# Altium footprint library BLErelay.PcbLib: 20 footprints (part 1 of 2)
Each footprint in its own frame and in the unit in brackets; x right, y up, seen from the top. Pads: shape width x height; smd on the part's side, far side on the other; paste and mask are expansions set on the pad; w line width, h text height; cw(c..) or ccw(c..) is an arc to the next point about the centre after c.
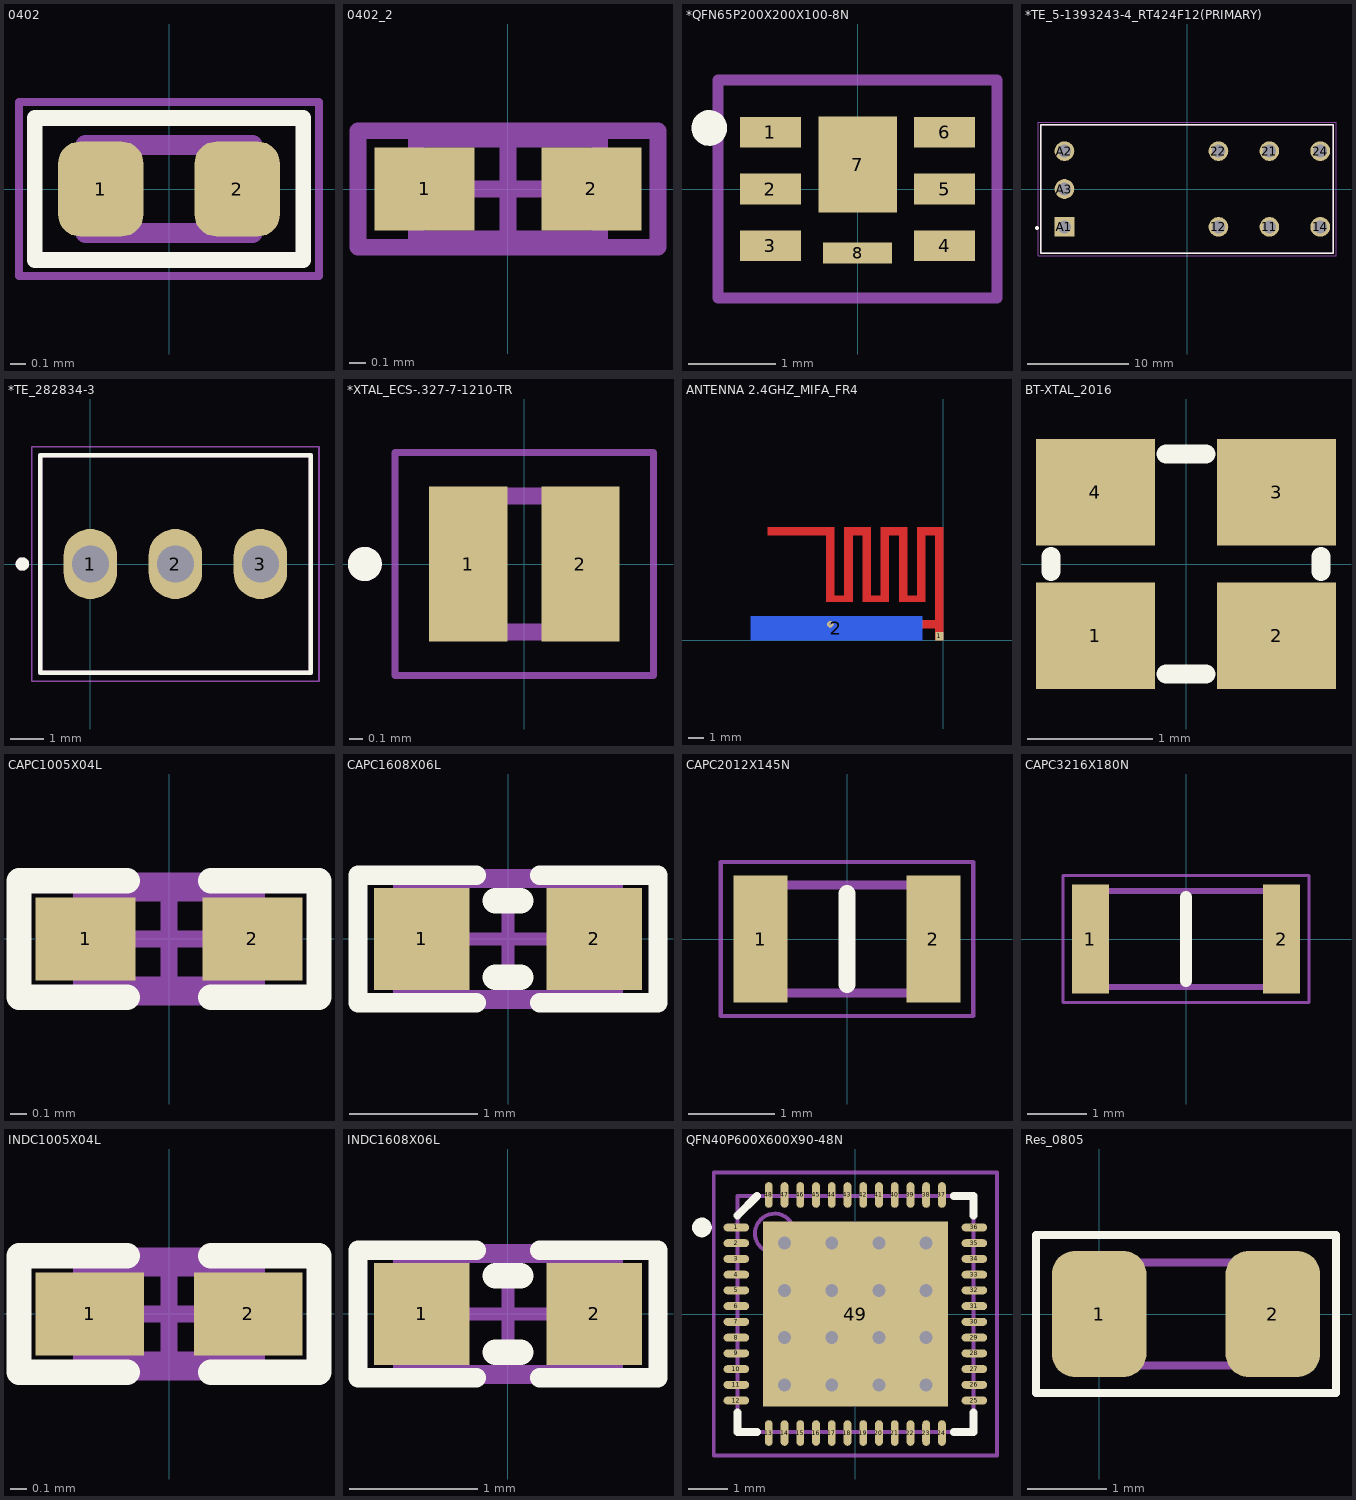
[diagram p0: the footprints below, top view; thin cyan lines are the x and y axes]

## 0402 [mm]
pads (2):
  rrect50% 0.54x0.6 smd mask+0.05: 1(-0.432,0) 2(0.432,0)
Top Overlay:
  lines w0.1: -0.85,-0.45 0.85,-0.45 0.85,0.45 -0.85,0.45 -0.85,-0.45
Mechanical 4:
  lines w0.127: -0.53,-0.28 -0.53,0.28 ; -0.53,-0.28 0.53,-0.28 ; -0.53,-0.28 -0.53,0.28 ; -0.53,-0.28 0.53,-0.28 ; -0.53,0.28 0.53,0.28 ; -0.53,0.28 0.53,0.28 ; 0.53,-0.28 0.53,0.28 ; 0.53,-0.28 0.53,0.28
Mechanical 16:
  lines w0.05: -0.95,-0.55 -0.95,0.55 0.95,0.55 0.95,-0.55 -0.95,-0.55
3D body "User Library-d0402h025.step": height 0.25, standoff 0, extent -0.5,-0.25 0.5,0.25

## 0402_2 [mm]
pads (2):
  rect 0.6x0.5 smd: 1(-0.5,0) 2(0.5,0)
Mechanical 13:
  lines w0.1: -0.55,-0.3 -0.55,0.3 0.55,0.3 0.55,-0.3 -0.55,-0.3
Mechanical 15:
  lines w0.1: -0.3,0 0.3,0 ; 0,-0.3 0,0.3 ; -0.9,-0.35 -0.9,0.35 0.9,0.35 0.9,-0.35 -0.9,-0.35
3D body: height 1.3, standoff 0, extent -0.55,-0.3 0.55,0.3

## *QFN65P200X200X100-8N [mm]
pads (8):
  rect 0.7x0.35 smd: 1(-1,0.65) 2(-1,0) 3(-1,-0.65) 4(1,-0.65) 5(1,0) 6(1,0.65)
  rect 0.9x1.1 smd: 7(0,0.28)
  rect 0.795x0.24 smd: 8(0,-0.735)
Top Overlay:
  circle w0.305: c-1.7,0.7 r0.05
  circle w0.127: c-1.7,0.7 r0.141
Mechanical 16:
  lines w0.127: -1.6,-1.25 -1.6,1.25 1.6,1.25 1.6,-1.25 -1.6,-1.25
3D body: height 0.5, standoff 0, extent -1.27,-1.016 1.27,1.016

## *TE_5-1393243-4_RT424F12(PRIMARY) [mm]
pads (9):
  round 1.95 hole 1.3: 11(8.15,-3.75) 12(3.11,-3.75) 14(13.19,-3.75) 21(8.15,3.75) 22(3.11,3.75) 24(13.19,3.75) A2(-12.15,3.75) A3(-12.15,0)
  rect 1.95x1.95 hole 1.3: A1(-12.15,-3.75)
Top Overlay:
  circle w0.2: c-14.865,-3.87 r0.1
  lines w0.127: -14.5,-6.35 -14.5,6.35 14.5,6.35 14.5,-6.35 -14.5,-6.35
Mechanical 4:
  lines w0.127: -14.5,-6.35 -14.5,6.35 ; -14.5,-6.35 14.5,-6.35 ; -14.5,-6.35 -14.5,6.35 ; -14.5,-6.35 14.5,-6.35 ; -14.5,6.35 14.5,6.35 ; -14.5,6.35 14.5,6.35 ; 14.5,-6.35 14.5,6.35 ; 14.5,-6.35 14.5,6.35
Mechanical 16:
  lines w0.05: -14.75,-6.6 -14.75,6.6 14.75,6.6 14.75,-6.6 -14.75,-6.6
3D body "c-5-1393243-4-b-3d.stp": height 15.7, standoff -3.6, extent -14.5,-6.35 14.5,6.35

## *TE_282834-3 [mm]
pads (3):
  oval 1.6x2.1 hole 1.1: 1(0,0) 2(2.54,0) 3(5.08,0)
Top Overlay:
  circle w0.2: c-2.032,0 r0.1
  lines w0.127: -1.5,-3.25 6.58,-3.25 6.58,3.25 -1.5,3.25 -1.5,-3.25
Mechanical 4:
  circle w0.2: c-2.032,0 r0.1
  circle w0.2: c-2.032,0 r0.1
  lines w0.127: -1.5,-3.25 6.58,-3.25 ; -1.5,-3.25 -1.5,3.25 ; -1.5,-3.25 6.58,-3.25 ; -1.5,-3.25 -1.5,3.25 ; -1.5,3.25 6.58,3.25 ; -1.5,3.25 6.58,3.25 ; 6.58,-3.25 6.58,3.25 ; 6.58,-3.25 6.58,3.25
Mechanical 16:
  lines w0.05: -1.75,-3.5 6.83,-3.5 6.83,3.5 -1.75,3.5 -1.75,-3.5
3D body "c-282834-3-c-3d.stp": height 10.05, standoff -3.35, extent -1.5,-3.198 6.58,3.302

## *XTAL_ECS-.327-7-1210-TR [mm]
pads (2):
  rect 0.575x1.14 smd: 1(-0.413,0) 2(0.413,0)
Top Overlay:
  circle w0.15: c-1.173,0 r0.05
Mechanical 4:
  circle w0.15: c-1.173,0 r0.05
  circle w0.15: c-1.173,0 r0.05
  lines w0.127: -0.6,-0.5 -0.6,0.5 ; -0.6,-0.5 0.6,-0.5 ; -0.6,-0.5 -0.6,0.5 ; -0.6,-0.5 0.6,-0.5 ; -0.6,0.5 0.6,0.5 ; -0.6,0.5 0.6,0.5 ; 0.6,-0.5 0.6,0.5 ; 0.6,-0.5 0.6,0.5
Mechanical 16:
  lines w0.05: -0.95,-0.82 -0.95,0.82 0.95,0.82 0.95,-0.82 -0.95,-0.82

## ANTENNA 2.4GHZ_MIFA_FR4 [mil]
pads (2):
  rect 20x20 smd: 1(-10,10)
  rect 425x60 smd far side: 2(-265,30)
via -280,40 diameter 15.75 hole 7.87
Top Layer:
  region: 0,0 0,280 -65,280 -65,110 -90,110 -90,280 -155,280 -155,110 -180,110 -180,280 -245,280 -245,110 -270,110 -270,280 -435,280 -435,260 -290,260 -290,95 -225,95 -225,260 -200,260 -200,95 -135,95 -135,260 -110,260 -110,95 -45,95 -45,260 -20,260 -20,0
  region: 0,50 -293,50 -293,30 0,30
Bottom Layer:
  region: 0,560
  region: 0,0

## BT-XTAL_2016 [mm]
pads (4):
  rect 0.95x0.85 smd: 1(-0.725,-0.575) 2(0.725,-0.575) 3(0.725,0.575) 4(-0.725,0.575)
Top Overlay:
  lines w0.152: -1.08,-0.06 -1.08,0.06 ; -0.16,-0.88 0.16,-0.88 ; -0.16,0.88 0.16,0.88 ; 1.08,-0.06 1.08,0.06
3D body "User Library-GeyerElectronics_KX5.step": height 0.56, standoff 0, extent -1.05,-0.85 1.05,0.85
3D body: height 0.56, standoff 0.15, extent -0.7,-0.65 0.7,0.65

## CAPC1005X04L [mm]
pads (2):
  rect 0.6x0.5 smd: 1(-0.5,0) 2(0.5,0)
Top Overlay:
  lines w0.152: -0.25,-0.35 -0.9,-0.35 -0.9,0.35 -0.25,0.35 ; 0.25,-0.35 0.9,-0.35 0.9,0.35 0.25,0.35
Mechanical 13:
  lines w0.1: -0.525,-0.275 0.525,-0.275 0.525,0.275 -0.525,0.275 -0.525,-0.275
Mechanical 15:
  lines w0.1: -0.275,0 0.275,0 ; 0,-0.275 0,0.275 ; -0.9,-0.35 -0.9,0.35 0.9,0.35 0.9,-0.35 -0.9,-0.35
3D body "User Library-0402(1005M) Cap.step": height 0.5, standoff -0.01, extent -0.508,-0.254 0.508,0.254

## CAPC1608X06L [mm]
pads (2):
  rect 0.75x0.8 smd: 1(-0.675,0) 2(0.675,0)
Top Overlay:
  lines w0.152: -0.25,-0.5 -1.175,-0.5 -1.175,0.5 -0.25,0.5 ; 0.25,-0.5 1.175,-0.5 1.175,0.5 0.25,0.5
  lines w0.2: -0.1,-0.3 0.1,-0.3 ; -0.1,0.3 0.1,0.3
Mechanical 13:
  lines w0.1: -0.85,-0.45 0.85,-0.45 0.85,0.45 -0.85,0.45 -0.85,-0.45
Mechanical 15:
  lines w0.1: -0.45,0 0.45,0 ; 0,-0.45 0,0.45 ; -1.175,-0.5 -1.175,0.5 1.175,0.5 1.175,-0.5 -1.175,-0.5
3D body "User Library-Chip Capacitor 0603.step": height 0.8, standoff 0, extent -0.8,-0.43 0.8,0.43

## CAPC2012X145N [mm]
pads (2):
  rect 0.62x1.47 smd: 1(-1,0) 2(1,0)
Top Overlay:
  lines w0.2: 0,-0.525 0,0.525
Mechanical 13:
  lines w0.1: -1,-0.625 -1,0.625 1,0.625 1,-0.625 -1,-0.625
Mechanical 15:
  lines w0.05: -1.46,-0.89 -1.46,0.89 1.46,0.89 1.46,-0.89 -1.46,-0.89
3D body "C2012X7T2W473K125AA.stp": height 1.45, standoff 0, extent -1,-0.625 1,0.625

## CAPC3216X180N [mm]
pads (2):
  rect 0.62x1.82 smd: 1(-1.6,0) 2(1.6,0)
Top Overlay:
  lines w0.2: 0,-0.7 0,0.7
Mechanical 13:
  lines w0.1: -1.6,-0.8 -1.6,0.8 1.6,0.8 1.6,-0.8 -1.6,-0.8
Mechanical 15:
  lines w0.05: -2.06,-1.06 -2.06,1.06 2.06,1.06 2.06,-1.06 -2.06,-1.06
3D body "C3216X5R1V226M160AC.stp": height 1.8, standoff 0, extent -1.6,-0.8 1.6,0.8

## INDC1005X04L [mm]
pads (2):
  rect 0.65x0.5 smd: 1(-0.475,0) 2(0.475,0)
Top Overlay:
  lines w0.152: -0.25,-0.35 -0.9,-0.35 -0.9,0.35 -0.25,0.35 ; 0.25,-0.35 0.9,-0.35 0.9,0.35 0.25,0.35
Mechanical 13:
  lines w0.1: -0.525,-0.275 -0.525,0.275 0.525,0.275 0.525,-0.275 -0.525,-0.275
Mechanical 15:
  lines w0.1: -0.275,0 0.275,0 ; 0,-0.275 0,0.275 ; -0.9,-0.35 -0.9,0.35 0.9,0.35 0.9,-0.35 -0.9,-0.35
3D body "User Library-Chip Inductor 0402.step": height 0.5, standoff 0, extent -0.5,-0.3 0.5,0.3

## INDC1608X06L [mm]
pads (2):
  rect 0.75x0.8 smd: 1(-0.675,0) 2(0.675,0)
Top Overlay:
  lines w0.152: -0.25,-0.5 -1.175,-0.5 -1.175,0.5 -0.25,0.5 ; 0.25,-0.5 1.175,-0.5 1.175,0.5 0.25,0.5
  lines w0.2: -0.1,-0.3 0.1,-0.3 ; -0.1,0.3 0.1,0.3
Mechanical 13:
  lines w0.1: -0.85,-0.45 0.85,-0.45 0.85,0.45 -0.85,0.45 -0.85,-0.45
Mechanical 15:
  lines w0.1: -0.45,0 0.45,0 ; 0,-0.45 0,0.45 ; -1.175,-0.5 -1.175,0.5 1.175,0.5 1.175,-0.5 -1.175,-0.5
3D body "User Library-Chip Inductor.step": height 0.8, standoff 0, extent -0.8,-0.475 0.8,0.475

## QFN40P600X600X90-48N [mm]
pads (49):
  oval 0.65x0.2 smd: 1(-3.025,2.2) 2(-3.025,1.8) 3(-3.025,1.4) 4(-3.025,1) 5(-3.025,0.6) 6(-3.025,0.2) 7(-3.025,-0.2) 8(-3.025,-0.6) 9(-3.025,-1) 10(-3.025,-1.4) 11(-3.025,-1.8) 12(-3.025,-2.2) 25(3.025,-2.2) 26(3.025,-1.8) 27(3.025,-1.4) 28(3.025,-1) 29(3.025,-0.6) 30(3.025,-0.2) 31(3.025,0.2) 32(3.025,0.6) 33(3.025,1) 34(3.025,1.4) 35(3.025,1.8) 36(3.025,2.2)
  oval 0.2x0.65 smd: 13(-2.2,-3.025) 14(-1.8,-3.025) 15(-1.4,-3.025) 16(-1,-3.025) 17(-0.6,-3.025) 18(-0.2,-3.025) 19(0.2,-3.025) 20(0.6,-3.025) 21(1,-3.025) 22(1.4,-3.025) 23(1.8,-3.025) 24(2.2,-3.025) 37(2.2,3.025) 38(1.8,3.025) 39(1.4,3.025) 40(1,3.025) 41(0.6,3.025) 42(0.2,3.025) 43(-0.2,3.025) 44(-0.6,3.025) 45(-1,3.025) 46(-1.4,3.025) 47(-1.8,3.025) 48(-2.2,3.025)
  rect 4.7x4.7 smd: 49(0,0)
via 1.8,-1.8 diameter 0.66 hole 0.33
via 0.6,-1.8 diameter 0.66 hole 0.33
via -0.6,-1.8 diameter 0.66 hole 0.33
via -1.8,-1.8 diameter 0.66 hole 0.33
via 1.8,-0.6 diameter 0.66 hole 0.33
via 0.6,-0.6 diameter 0.66 hole 0.33
via -0.6,-0.6 diameter 0.66 hole 0.33
via -1.8,-0.6 diameter 0.66 hole 0.33
via 1.8,0.6 diameter 0.66 hole 0.33
via 0.6,0.6 diameter 0.66 hole 0.33
via -0.6,0.6 diameter 0.66 hole 0.33
via -1.8,0.6 diameter 0.66 hole 0.33
via 1.8,1.8 diameter 0.66 hole 0.33
via 0.6,1.8 diameter 0.66 hole 0.33
via -0.6,1.8 diameter 0.66 hole 0.33
via -1.8,1.8 diameter 0.66 hole 0.33
Top Overlay:
  circle w0.25: c-3.9,2.2 r0.125
  lines w0.2: -3,-2.5 -3,-3 -2.5,-3 ; -3,2.5 -2.5,3 ; 2.5,-3 3,-3 3,-2.5 ; 2.5,3 3,3 3,2.5
Mechanical 13:
  circle w0.1: c-2.05,2.05 r0.5
  lines w0.1: -3,-3 3,-3 3,3 -3,3 -3,-3
Mechanical 15:
  lines w0.1: -0.5,0 0.5,0 ; 0,-0.5 0,0.5 ; -3.6,-3.6 3.6,-3.6 3.6,3.6 -3.6,3.6 -3.6,-3.6
3D body "User Library-QFN48.step": height 0.86, standoff -0.01, extent -3.02,-3.02 3.02,3.02

## Res_0805 [mm]
pads (2):
  rrect50% 1.2x1.6 smd: 1(0,0) 2(2.2,0)
Top Overlay:
  lines w0.1: -0.8,-1 -0.8,1 3,1 3,-1 -0.8,-1
Mechanical 1:
  lines w0.1: 0.05,-0.65 0.05,0.65 2.15,0.65 2.15,-0.65 0.05,-0.65
3D body "Resistor_0805.STEP": height 0.5, standoff 0, extent 0.05,-0.65 2.15,0.65